# Altium schematic symbol library CarrierMotherboard.SCHLIB: 11 symbols
Pins are listed as number, name and electrical type; pins without a type are passive.

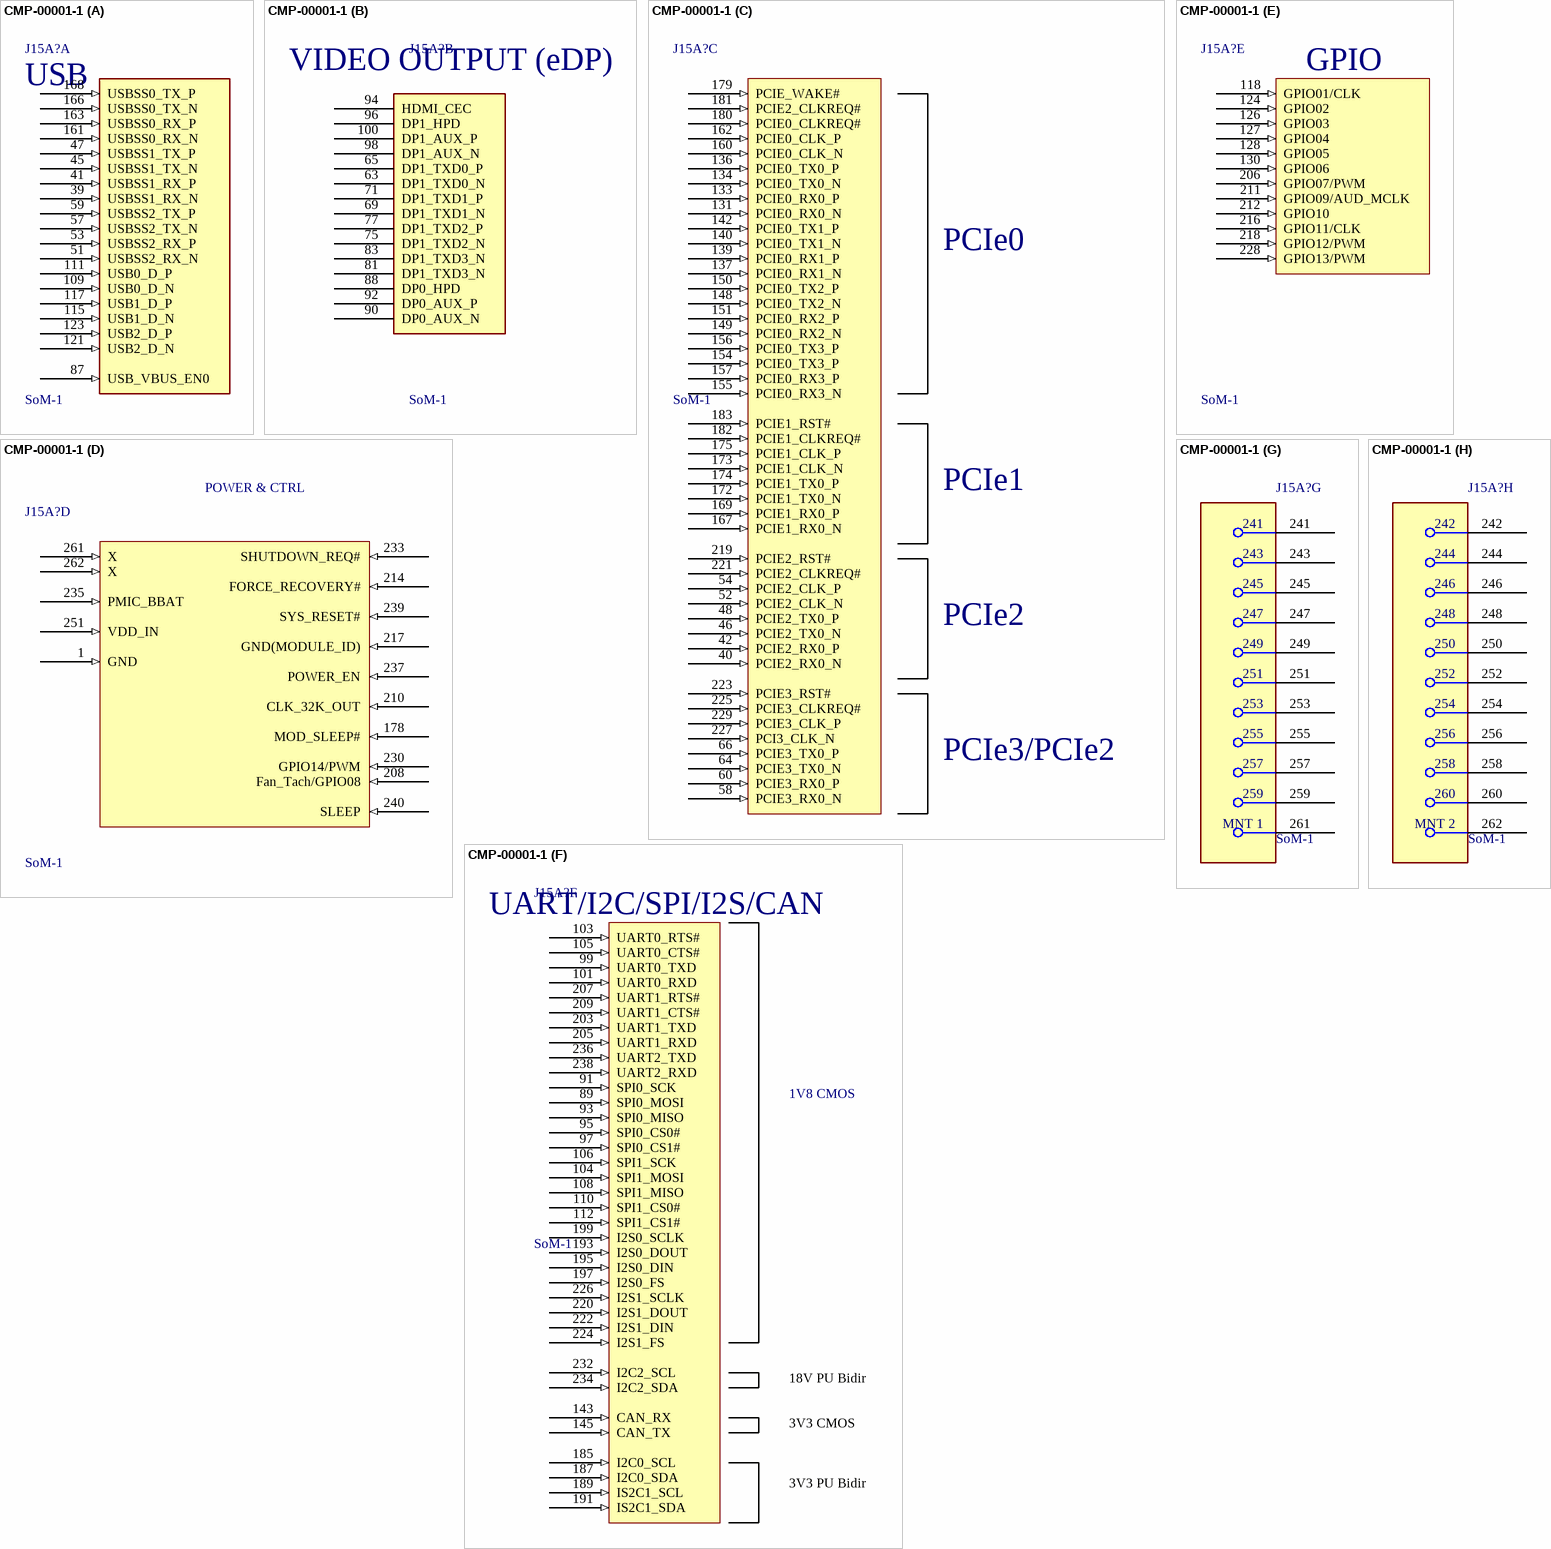
[diagram p0: symbol CMP-00001-1]

## CMP-00001-1
designator J15A?, comment SoM-1
Memory Card Connector, DDR4, SODIMM, Cam-In Locking, 260 Contacts, Copper Alloy; Manufacturer Lifecycle Status: ACTIVE; Manufacturer: TE Connectivity; Manufacturer Part Number: 2309413-1; Number of Contacts: 260; Pitch: 500µm; Circuit Application: Power; Voltage Rating: 25V; Max Current Rating: 500mA; Dielectric Material: Polyethylene; Row Spacing: 8.2mm; Shielding: No; Memory Format: DDR, SDRAM; Number of Ports: 1; Contact Material: Gold, Nickel; Lifecycle Status: Production; Packaging: Tape & Reel; Mounting Technology: Surface Mount; Contact Gender: Female; Flammability Rating: UL94 V-0; Height: 18.8mm; Source: 4d1075b24ee2591bdcd47d674b3d2aa.SchLib; Pins: 260; Min Operating Temperature: -55°C; Orientation: Right Angle; Housing Color: Black; Housing Material: Thermoplastic; Sealable: No; Number of Positions: 260; Current Rating: 500mA; RoHS: Compliant; Number of Rows: 2; Contact Plating: Gold, Nickel; China RoHS: Compliant; Terminal Pitch: 500µm; Max Operating Temperature: 85°C; Contact Current Rating: 500mA; Schedule B: 8536694040, 8536694040; REACH SVHC: Yes
footprint FP-2309413-1-MFG
part A pins: 39 USBSS1_RX_N (in), 41 USBSS1_RX_P (in), 45 USBSS1_TX_N (in), 47 USBSS1_TX_P (in), 51 USBSS2_RX_N (in), 53 USBSS2_RX_P (in), 57 USBSS2_TX_N (in), 59 USBSS2_TX_P (in), 87 USB_VBUS_EN0 (in), 109 USB0_D_N (in), 111 USB0_D_P (in), 115 USB1_D_N (in), 117 USB1_D_P (in), 121 USB2_D_N (in), 123 USB2_D_P (in), 161 USBSS0_RX_N (in), 163 USBSS0_RX_P (in), 166 USBSS0_TX_N (in), 168 USBSS0_TX_P (in)
part B pins: 63 DP1_TXD0_N, 65 DP1_TXD0_P, 69 DP1_TXD1_N, 71 DP1_TXD1_P, 75 DP1_TXD2_N, 77 DP1_TXD2_P, 81 DP1_TXD3_N, 83 DP1_TXD3_N, 88 DP0_HPD, 90 DP0_AUX_N, 92 DP0_AUX_P, 94 HDMI_CEC, 96 DP1_HPD, 98 DP1_AUX_N, 100 DP1_AUX_P
part C pins: 40 PCIE2_RX0_N (in), 42 PCIE2_RX0_P (in), 46 PCIE2_TX0_N (in), 48 PCIE2_TX0_P (in), 52 PCIE2_CLK_N (in), 54 PCIE2_CLK_P (in), 58 PCIE3_RX0_N (in), 60 PCIE3_RX0_P (in), 64 PCIE3_TX0_N (in), 66 PCIE3_TX0_P (in), 131 PCIE0_RX0_N (in), 133 PCIE0_RX0_P (in), 134 PCIE0_TX0_N (in), 136 PCIE0_TX0_P (in), 137 PCIE0_RX1_N (in), 139 PCIE0_RX1_P (in), 140 PCIE0_TX1_N (in), 142 PCIE0_TX1_P (in), 148 PCIE0_TX2_N (in), 149 PCIE0_RX2_N (in), 150 PCIE0_TX2_P (in), 151 PCIE0_RX2_P (in), 154 PCIE0_TX3_P (in), 155 PCIE0_RX3_N (in), 156 PCIE0_TX3_P (in), 157 PCIE0_RX3_P (in), 160 PCIE0_CLK_N (in), 162 PCIE0_CLK_P (in), 167 PCIE1_RX0_N (in), 169 PCIE1_RX0_P (in), 172 PCIE1_TX0_N (in), 173 PCIE1_CLK_N (in), 174 PCIE1_TX0_P (in), 175 PCIE1_CLK_P (in), 179 PCIE_WAKE# (in), 180 PCIE0_CLKREQ# (in), 181 PCIE2_CLKREQ# (in), 182 PCIE1_CLKREQ# (in), 183 PCIE1_RST# (in), 219 PCIE2_RST# (in), 221 PCIE2_CLKREQ# (in), 223 PCIE3_RST# (in), 225 PCIE3_CLKREQ# (in), 227 PCI3_CLK_N (in), 229 PCIE3_CLK_P (in)
part D pins: 1 GND (in), 178 MOD_SLEEP# (in), 208 Fan_Tach/GPIO08 (in), 210 CLK_32K_OUT (in), 214 FORCE_RECOVERY# (in), 217 GND(MODULE_ID) (in), 230 GPIO14/PWM (in), 233 SHUTDOWN_REQ# (in), 235 PMIC_BBAT (in), 237 POWER_EN (in), 239 SYS_RESET# (in), 240 SLEEP (in), 251 VDD_IN (in), 261 X (in), 262 X (in)
part E pins: 118 GPIO01/CLK (in), 124 GPIO02 (in), 126 GPIO03 (in), 127 GPIO04 (in), 128 GPIO05 (in), 130 GPIO06 (in), 206 GPIO07/PWM (in), 211 GPIO09/AUD_MCLK (in), 212 GPIO10 (in), 216 GPIO11/CLK (in), 218 GPIO12/PWM (in), 228 GPIO13/PWM (in)
part F pins: 89 SPI0_MOSI (in), 91 SPI0_SCK (in), 93 SPI0_MISO (in), 95 SPI0_CS0# (in), 97 SPI0_CS1# (in), 99 UART0_TXD (in), 101 UART0_RXD (in), 103 UART0_RTS# (in), 104 SPI1_MOSI (in), 105 UART0_CTS# (in), 106 SPI1_SCK (in), 108 SPI1_MISO (in), 110 SPI1_CS0# (in), 112 SPI1_CS1# (in), 143 CAN_RX (in), 145 CAN_TX (in), 185 I2C0_SCL (in), 187 I2C0_SDA (in), 189 IS2C1_SCL (in), 191 IS2C1_SDA (in), 193 I2S0_DOUT (in), 195 I2S0_DIN (in), 197 I2S0_FS (in), 199 I2S0_SCLK (in), 203 UART1_TXD (in), 205 UART1_RXD (in), 207 UART1_RTS# (in), 209 UART1_CTS# (in), 220 I2S1_DOUT (in), 222 I2S1_DIN (in), 224 I2S1_FS (in), 226 I2S1_SCLK (in), 232 I2C2_SCL (in), 234 I2C2_SDA (in), 236 UART2_TXD (in), 238 UART2_RXD (in)
part G pins: 241, 243, 245, 247, 249, 251, 253, 255, 257, 259, 261 MNT 1
part H pins: 242, 244, 246, 248, 250, 252, 254, 256, 258, 260, 262 MNT 2
part A text: USB
part B text: VIDEO OUTPUT (eDP)
part C text: PCIe0; PCIe1; PCIe2; PCIe3/PCIe2
part D text: POWER & CTRL
part E text: GPIO
part F text: UART/I2C/SPI/I2S/CAN; 1V8 CMOS; 18V PU Bidir; 3V3 CMOS; 3V3 PU Bidir

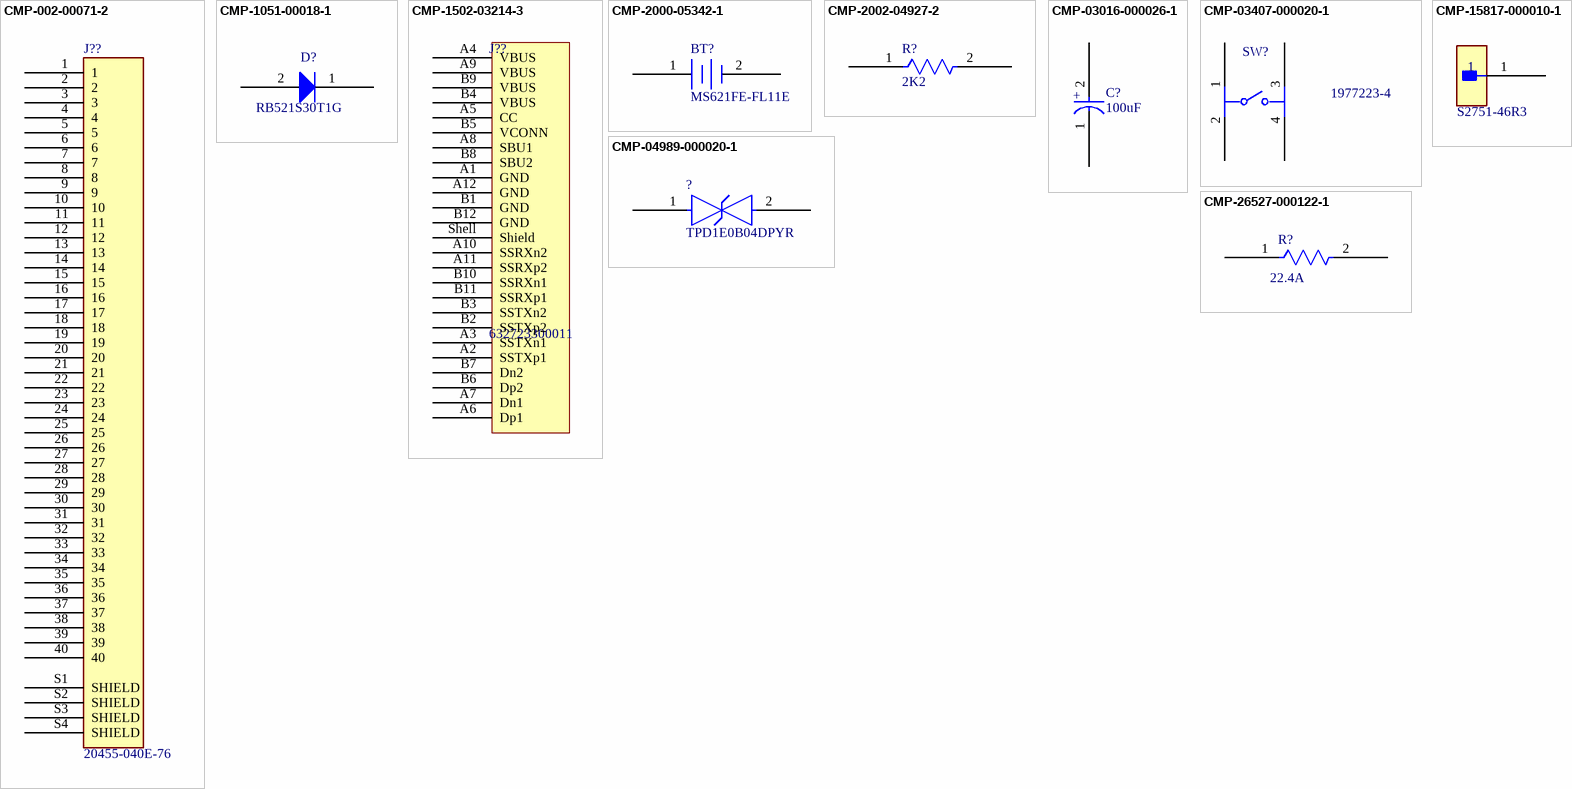
[diagram p1: symbols CMP-002-00071-2 to CMP-26527-000122-1]

## CMP-002-00071-2
designator J??, comment 20455-040E-76
Conn Wire to Board RCP 40 POS 0.5mm Solder RA Side Entry SMDCABLINE® T/R; Manufacturer: I-PEX; Pins: 40; Contact Gender: Female; Manufacturer Part Number: 20455-040E-76; Component Type: Connectors
footprint IPEX_20455-040E-76
pins: 1, 2, 3, 4, 5, 6, 7, 8, 9, 10, 11, 12, 13, 14, 15, 16, 17, 18, 19, 20, 21, 22, 23, 24, 25, 26, 27, 28, 29, 30, 31, 32, 33, 34, 35, 36, 37, 38, 39, 40, S1 SHIELD, S2 SHIELD, S3 SHIELD, S4 SHIELD

## CMP-1051-00018-1
designator D?, comment RB521S30T1G
Schottky Barrier Diode, 2-Pin SOD-523, Pb-Free, Tape and Reel; Manufacturer: On Semiconductor; Configuration: Single; IFSM Max (A): 1; Mounting Technology: Surface Mount; ComponentLink1Description: Manufacturer URL; PackageReference: SOD-523-2-502-01; RoHS: TRUE; ComponentLink3Description: Package Specification; ComponentLink2Description: Datasheet; PackageVersion: Rev. E, 09/2010; PartNumber: RB521S30T1G; ComponentLink3URL: http://www.onsemi.com/pub_link/Collateral/502-01.PDF; ComponentLink1URL: http://www.onsemi.com/; PackageDescription: 2-Pin SOD, Body 1.2 x 0.8 mm; DatasheetVersion: Rev. 8; ComponentLink2URL: http://www.onsemi.cn/pub_link/Collateral/RB521S30T1-D.PDF; Packing: Tape and Reel
footprint ONSC-SOD-523-2-502-01_V (SOD, 2-Leads, Body 1.2x0.8mm)
pins: 1 K, 2 A

## CMP-1502-03214-3
designator J??, comment 632723300011
NexarPartId: 68112675; Pin Length: 1.9mm; Current Rating: 5A; Gender: Receptacle; Voltage Rating: 20V; Number of Contacts: 24; Insulation Resistance: 1GΩ; USB Standard: USB 3.1; Connector Type: USB; Contact Resistance: 30mΩ; Min Operating Temperature: -40°C; Mount: Surface Mount, Through Hole; Height: 3.21mm; Number of Pins: 24; RoHS: Compliant; Orientation: Horizontal; Max Operating Temperature: 105°C; Packaging: Tape and Reel; Contact Material: Gold, Nickel
footprint 632723300011 (Footprint not found)
pins: A1 GND, A2 SSTXp1, A3 SSTXn1, A4 VBUS, A5 CC, A6 Dp1, A7 Dn1, A8 SBU1, A9 VBUS, A10 SSRXn2, A11 SSRXp2, A12 GND, B1 GND, B2 SSTXp2, B3 SSTXn2, B4 VBUS, B5 VCONN, B6 Dp2, B7 Dn2, B8 SBU2, B9 VBUS, B10 SSRXn1, B11 SSRXp1, B12 GND, Shell Shield

## CMP-2000-05342-1
designator BT?, comment MS621FE-FL11E
MS Lihium Rechargeable Battery, 3 V, -20 to 60 degC, Tray; Manufacturer: SeikoInstruments; Brand: SeikoInstrumentsMicroEnergy; Output Voltage: 3V; Capacity: 5.5mAh; Chemistry: Lithium; Battery Size: 621; Unit Weight: 0.008113oz; Datasheet URL: http://datasheet.octopart.com/MS621FE-FL11E-Seiko-datasheet-5320152.pdf; Rechargeable/Non-Rechargeable: Rechargeable; Orientation: Vertical; Height: 2.1mm; Series: MS; Datasheet Version: Jan-08; Type: CoinCellBatterywithLeads; Diameter: 6.8mm; Mounting Style: WithLeads; Product Category: CoinCellBattery; Termination Style: ThroughHole; Packaging: Tray; Manufacturer URL: http://www.sii.co.jp/en/; RoHS: NotApplicable; Factory Pack Quantity: 100
footprint SEIK-MS621FE-FL11E-2_V (SMD, 2-Leads, Diameter 6.8mm)
pins: 1 +, 2 -

## CMP-2002-04927-2
designator R?, comment 2K2
Thick Film Chip Resistors 0402 2.2kΩ 0.0625W 1% 100ppm/°C; Resistance: 2.2kR; Power Rating: 62.5mW; Max Power Dissipation: 63mW; Voltage Rating: 50V; Case/Package: 0402; Case Code (Imperial): 0402; Mount: Surface Mount; Termination: SMD/SMT; Military Standard: Not; Thickness: 356um; Temperature Coefficient: 100ppm/°C; Depth: 0.5mm; Packaging: Tape and Reel; Max Operating Temperature: 125°C; Length: 1mm; Composition: Thick Film; Package Quantity: 1; Contact Plating: Tin; Min Operating Temperature: -55°C; Width: 0.02inch; Tolerance: 1%; Case Code (Metric): 1005; Radiation Hardening: No; Height: 0.016inch; Number of Terminations: 2
footprint FP-CR0402-IPC_B
footprint FP-CR0402-IPC_A
footprint FP-CR0402-MFG
footprint FP-CR0402-IPC_C
pins: 1, 2

## CMP-03016-000026-1
designator C?, comment 100uF
CAP TANT POLY 100UF 25V 2917; Tolerance: 20%; ESR (Equivalent Series Resistance): 40mR; Min Operating Temperature: -55°C; Voltage Rating: 25V; Width: 0.169inch; Case Code (Imperial): 2917; Packaging: Cut Tape; Max Operating Temperature: 105°C; Length: 0.287inch; Capacitance: 100uF; Voltage Rating (DC): 25V; Features: General Purpose; REACH SVHC: No SVHC; Height - Seated (Max): 0.122inch; Series: KO-CAP® T521; Case/Package: 2917; Case Code (Metric): 7343; Mount: Surface Mount
footprint FP-T521D107M025ATE040-MFG
pins: 1 C, 2 A
text: +

## CMP-03407-000020-1
designator SW?, comment 1977223-4
SWITCH TACTILE SPST-NO 0.05A 12V; RoHS Compliant: Yes
footprint FP-1977223-4-MFG
pins: 1, 2, 3, 4

## CMP-04989-000020-1
designator ?, comment TPD1E0B04DPYR
TVS DIODE 3.6V 19V 2X1SON; Number of Channels: 1; Power Line Protection: No; Peak Pulse Current: 1.7A; Peak Pulse Power: 15W; Interface: USB; Min Breakdown Voltage: 6.7V; Case Code (Imperial): 0402; Resistor Type: Zener; RoHS Compliant: Yes; Case/Package: 0402; Case Code (Metric): 1006; Max Operating Temperature: 125°C; Packaging: Cut Tape; Clamping Voltage: 19V; Mount: Surface Mount; Number of Bidirectional Channels: 1; Min Operating Temperature: -40°C; Reverse Standoff Voltage: 3.6V
footprint FP-DPY0002A-MFG
pins: 1 1 IO, 2 2 IO

## CMP-15817-000010-1
designator ?, comment S2751-46R3
PC TEST POINT NATURAL; Plating: Tin; Body Material: Brass; Color: Natural; Material: Copper Alloy; Mount: Surface Mount; Packaging: Cut Tape
footprint FP-S2751-46R-MFG
pins: 1

## CMP-26527-000122-1
designator R?, comment 22.4A
RES 0 OHM JUMPER 1/4W 0603; Resistance: 0mR; Termination: Wraparound; Mount: Surface Mount; Min Operating Temperature: -55°C; Number of Terminations: 2; Packaging: Tape and Reel; Case Code (Imperial): 0603; Height: 0.021inch; RoHS Compliant: Yes; Width: 0.031inch; Package Quantity: 5000; Max Operating Temperature: 155°C; Radiation Hardening: No; Case/Package: 0603; Length: 0.061inch; Case Code (Metric): 1608
footprint FP-HCJ0603-MFG
footprint FP-HCJ0603-IPC_C
footprint FP-HCJ0603-IPC_B
footprint FP-HCJ0603-IPC_A
pins: 1, 2